# EAGLE library part DM1B-DSF-PEJ(22) (library DM1B-DSF-PEJ_22_)
DM1 Series 9 Position 2.9 mm Height SMT SD Memory Card
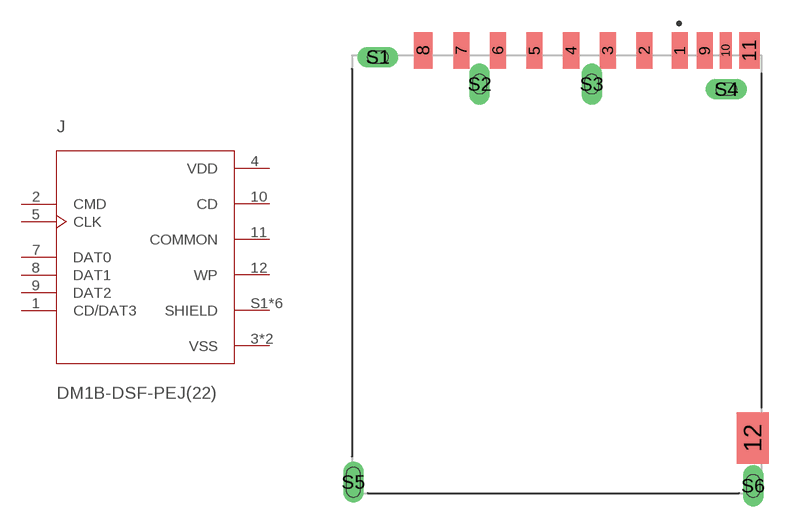
[diagram p0: symbol with the pads of JST_DM1B-DSF-PEJ(22); footprint JST_DM1B-DSF-PEJ(22)]

Designator prefix J

## DM1B-DSF-PEJ(22) (Description: 12 _9 + 3_ Position Card Connector Secure Digital - SD Surface Mount, Right Angle Gold; Digi-Key_Part_Number: HR846CT-ND; Digi-Key_Purchase_URL: https://www.digikey.com/product-detail/en/hirose-electric-co-ltd/DM1B-DSF-PEJ_22_/HR846CT-ND/559986?utm_source=snapeda&utm_medium=aggregator&utm_campaign=symbol; MF: Hirose; MP: DM1B-DSF-PEJ_22_; Package: None)  [JST_DM1B-DSF-PEJ(22)]
1  CD/DAT3
2  CMD
3  VSS  pwr
4  VDD  pwr
5  CLK
6  VSS  pwr
7  DAT0
8  DAT1
9  DAT2
10  CD  pas
11  COMMON  pas
12  WP  pas
S1  SHIELD  pas
S2  SHIELD  pas
S3  SHIELD  pas
S4  SHIELD  pas
S5  SHIELD  pas
S6  SHIELD  pas

## Footprint JST_DM1B-DSF-PEJ(22) (pad centres in mm)
smd 1.1 x 2.5: 1 8.05,1.25; 2 5.625,1.25; 3 3.125,1.25; 4 0.625,1.25; 5 -1.875,1.25; 6 -4.375,1.25; 7 -6.875,1.25; 9 9.75,1.25
smd 1.25 x 2.5: 8 -9.47,1.25
smd 0.8 x 2.5: 10 11.2,1.25
smd 1.4 x 2.5: 11 12.8,1.25
smd 2.2 x 3.5: 12 13.03,-25.23
drill 0.9 pad 1.3 long: S1 -12.57,0.8; S4 11.23,-1.4; S5 -14.25,-28.25; S6 13.06,-28.5
drill 0.9 pad 1.1 long: S2 -5.62,-1.05; S3 2.03,-1.05